# EAGLE library part JON_LIB_SWITCH_DPDT (library MAAV_13v1)
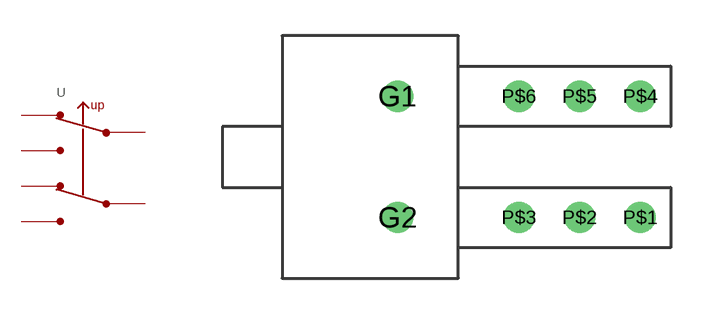
[diagram p3: symbol with the pads of JON_LIB_SWITCH_VERT_DPDT; footprint JON_LIB_SWITCH_VERT_DPDT]

Designator prefix -

## JON_LIB_SWITCH_DPDT (DIGIKEY#: AS22AV-ND)  [JON_LIB_SWITCH_VERT_DPDT]
P$1  P$1
P$2  P$2
P$3  P$3
P$4  P$4
P$5  P$5
P$6  P$6

## Footprint JON_LIB_SWITCH_VERT_DPDT (pad centres in mm)
drill 0.8: G1 -2.54,2.54; G2 -2.54,-2.54; P$1 7.62,-2.54; P$2 5.08,-2.54; P$3 2.54,-2.54; P$4 7.62,2.54; P$5 5.08,2.54; P$6 2.54,2.54